# EAGLE library part FPC-FINGER-16WAY (library pimoroni-fpc)
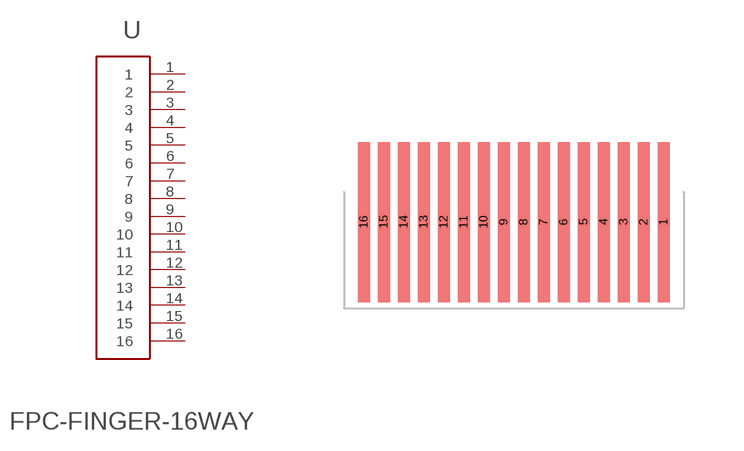
[diagram p57: symbol with the pads of FPC-FINGER-0.5MM-16WAY; footprint FPC-FINGER-0.5MM-16WAY]

Designator prefix -

## FPC-FINGER-16WAY  [FPC-FINGER-0.5MM-16WAY]
1  1
2  2
3  3
4  4
5  5
6  6
7  7
8  8
9  9
10  10
11  11
12  12
13  13
14  14
15  15
16  16

## Footprint FPC-FINGER-0.5MM-16WAY (pad centres in mm)
smd 0.3 x 4: 1 3.75,0.7; 2 3.25,0.7; 3 2.75,0.7; 4 2.25,0.7; 5 1.75,0.7; 6 1.25,0.7; 7 0.75,0.7; 8 0.25,0.7; 9 -0.25,0.7; 10 -0.75,0.7; 11 -1.25,0.7; 12 -1.75,0.7; 13 -2.25,0.7; 14 -2.75,0.7; 15 -3.25,0.7; 16 -3.75,0.7